# EAGLE library part UPG2009TB (library renesas)
L-BAND HIGH POWER SPDT SWITCH
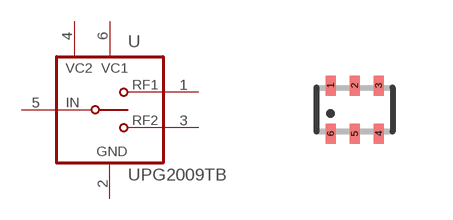
[diagram p4: symbol with the pads of MINIMOLD-6R; footprint MINIMOLD-6R]

Designator prefix U; gates G$1=RF-SW-SPDT G$2=RF-SW-CTRL

## UPG2009TB  [MINIMOLD-6R]
1  G$1:RF1
2  G$2:GND  pwr
3  G$1:RF2
4  G$2:V2  in
5  G$1:IN
6  G$2:V1  in

## Footprint MINIMOLD-6R (pad centres in mm)
MINI-MOLD-6 REVERSE PIN ORDER
smd 0.25 x 0.5: 1 -0.6,0.6; 2 0,0.6; 3 0.6,0.6; 4 0.6,-0.6; 5 0,-0.6; 6 -0.6,-0.6